# EAGLE library part HIF3BD-10PA-2.54DSA(71) (library Hirose)
10 ポジション ヘッダ コネクタ 0.100インチ（2.54mm） スルーホール 金
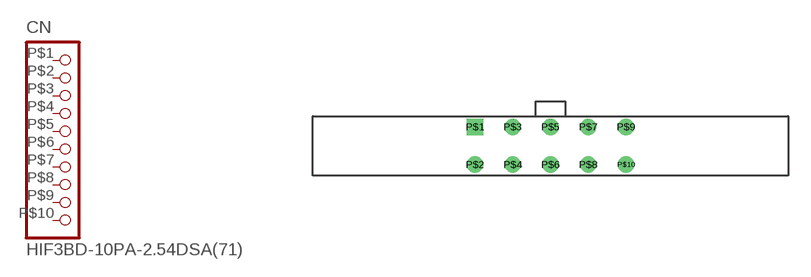
[diagram p1: symbol with the pads of HIF3BD-10PA; footprint HIF3BD-10PA]

Designator prefix CN

## HIF3BD-10PA-2.54DSA(71)  [HIF3BD-10PA]
P$1  1  pas
P$2  2  pas
P$3  3  pas
P$4  4  pas
P$5  5  pas
P$6  6  pas
P$7  7  pas
P$8  8  pas
P$9  9  pas
P$10  10  pas

## Footprint HIF3BD-10PA (pad centres in mm)
drill 0.6 square: P$1 -5.08,1.27
drill 0.6: P$2 -5.08,-1.27; P$3 -2.54,1.27; P$4 -2.54,-1.27; P$5 0,1.27; P$6 0,-1.27; P$7 2.54,1.27; P$8 2.54,-1.27; P$9 5.08,1.27; P$10 5.08,-1.27